# EAGLE library part HTIL311A (library DISPLAY_HP)
LED DISPLAY 1-character dot matrix, 2 decimal points
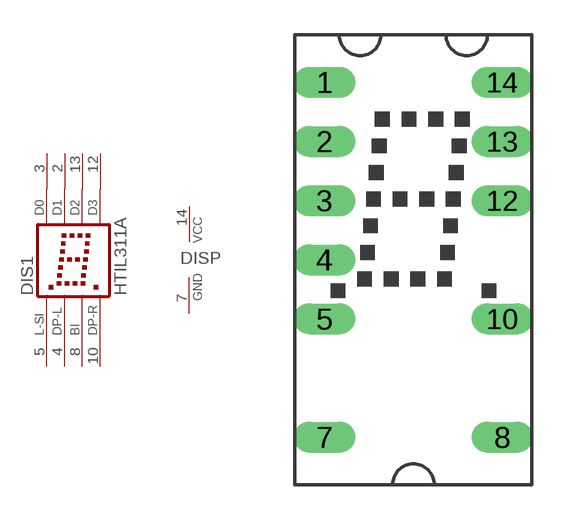
[diagram p0: symbol with the pads of HTIL311A; footprint HTIL311A]

Designator prefix DIS; gates 1=HTIL311A P=PWR

## HTIL311A  [HTIL311A]
2  1:D1  in
3  1:D0  in
4  1:DP-L  in
5  1:L-SI  in
7  P:GND  pwr
8  1:BI  in
10  1:DP-R  in
12  1:D3  in
13  1:D2  in
14  P:VCC  pwr

## Footprint HTIL311A (pad centres in mm)
LED DISPLAY 8-mm 1 character dot matrix, 2 decimal points
drill 0.813 long: 1 -3.81,7.62; 2 -3.81,5.08; 3 -3.81,2.54; 4 -3.81,0; 5 -3.81,-2.54; 7 -3.81,-7.62; 8 3.81,-7.62; 10 3.81,-2.54; 12 3.81,2.54; 13 3.81,5.08; 14 3.81,7.62